# Altium footprint library MCU_PcbLib.PcbLib: 21 footprints (part 2 of 2)
Each footprint in its own frame and in the unit in brackets; x right, y up, seen from the top. Pads: shape width x height; smd on the part's side, far side on the other; paste and mask are expansions set on the pad; w line width, h text height; cw(c..) or ccw(c..) is an arc to the next point about the centre after c.
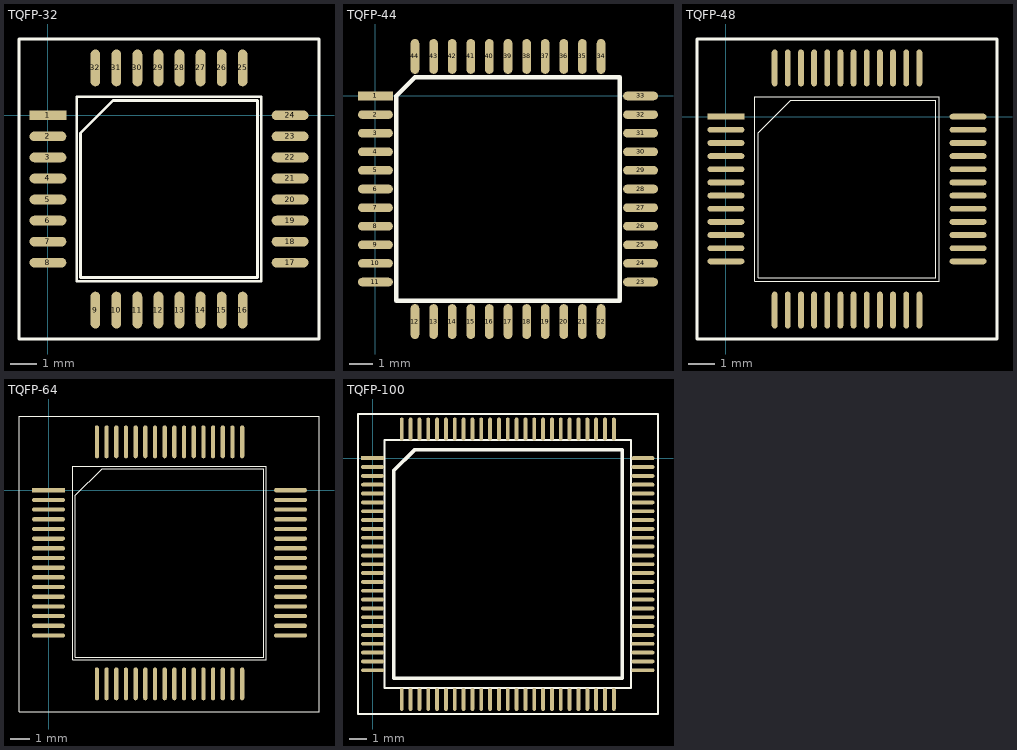
[diagram p1: the footprints below, top view; thin cyan lines are the x and y axes]

## TQFP-32 [mm]
pads (32):
  rect 1.4x0.37 smd: 1(0,0)
  oval 1.4x0.37 smd: 2(0,-0.8) 3(0,-1.6) 4(0,-2.4) 5(0,-3.2) 6(0,-4) 7(0,-4.8) 8(0,-5.6) 17(9.2,-5.6) 18(9.2,-4.8) 19(9.2,-4) 20(9.2,-3.2) 21(9.2,-2.4) 22(9.2,-1.6) 23(9.2,-0.8) 24(9.2,0)
  oval 0.37x1.4 smd: 9(1.8,-7.4) 10(2.6,-7.4) 11(3.4,-7.4) 12(4.2,-7.4) 13(5,-7.4) 14(5.8,-7.4) 15(6.6,-7.4) 16(7.4,-7.4) 25(7.4,1.8) 26(6.6,1.8) 27(5.8,1.8) 28(5,1.8) 29(4.2,1.8) 30(3.4,1.8) 31(2.6,1.8) 32(1.8,1.8)
Top Overlay:
  lines w0.1: -1.1,-8.5 10.3,-8.5 10.3,2.9 -1.1,2.9 -1.1,-8.5 ; 1.1,-6.3 1.1,-2.8 1.1,0.7 8.1,0.7 8.1,-6.3 1.1,-6.3 ; 1.235,-6.165 7.965,-6.165 7.965,0.565 2.47,0.565 1.235,-0.67 1.235,-6.165

## TQFP-44 [mm]
pads (44):
  rect 1.5x0.37 smd: 1(0,0)
  oval 1.5x0.37 smd: 2(0,-0.8) 3(0,-1.6) 4(0,-2.4) 5(0,-3.2) 6(0,-4) 7(0,-4.8) 8(0,-5.6) 9(0,-6.4) 10(0,-7.2) 11(0,-8) 23(11.4,-8) 24(11.4,-7.2) 25(11.4,-6.4) 26(11.4,-5.6) 27(11.4,-4.8) 28(11.4,-4) 29(11.4,-3.2) 30(11.4,-2.4) 31(11.4,-1.6) 32(11.4,-0.8) 33(11.4,0)
  oval 0.37x1.5 smd: 12(1.7,-9.7) 13(2.5,-9.7) 14(3.3,-9.7) 15(4.1,-9.7) 16(4.9,-9.7) 17(5.7,-9.7) 18(6.5,-9.7) 19(7.3,-9.7) 20(8.1,-9.7) 21(8.9,-9.7) 22(9.7,-9.7) 34(9.7,1.7) 35(8.9,1.7) 36(8.1,1.7) 37(7.3,1.7) 38(6.5,1.7) 39(5.7,1.7) 40(4.9,1.7) 41(4.1,1.7) 42(3.3,1.7) 43(2.5,1.7) 44(1.7,1.7)
Top Overlay:
  lines w0.2: 0.9,-8.8 10.5,-8.8 10.5,0.8 1.7,0.8 0.9,0 0.9,-8.8

## TQFP-48 [mm]
pads (48):
  rect 1.4x0.22 smd: 1(0,0)
  oval 1.4x0.22 smd: 2(0,-0.5) 3(0,-1) 4(0,-1.5) 5(0,-2) 6(0,-2.5) 7(0,-3) 8(0,-3.5) 9(0,-4) 10(0,-4.5) 11(0,-5) 12(0,-5.5) 25(9.2,-5.5) 26(9.2,-5) 27(9.2,-4.5) 28(9.2,-4) 29(9.2,-3.5) 30(9.2,-3) 31(9.2,-2.5) 32(9.2,-2) 33(9.2,-1.5) 34(9.2,-1) 35(9.2,-0.5) 36(9.2,0)
  oval 0.22x1.4 smd: 13(1.85,-7.35) 14(2.35,-7.35) 15(2.85,-7.35) 16(3.35,-7.35) 17(3.85,-7.35) 18(4.35,-7.35) 19(4.85,-7.35) 20(5.35,-7.35) 21(5.85,-7.35) 22(6.35,-7.35) 23(6.85,-7.35) 24(7.35,-7.35) 37(7.35,1.85) 38(6.85,1.85) 39(6.35,1.85) 40(5.85,1.85) 41(5.35,1.85) 42(4.85,1.85) 43(4.35,1.85) 44(3.85,1.85) 45(3.35,1.85) 46(2.85,1.85) 47(2.35,1.85) 48(1.85,1.85)
Top Overlay:
  lines w0.025: 1.1,-6.25 1.1,-2.75 1.1,0.675 1.1,0.75 8.1,0.75 8.1,-6.25 1.1,-6.25 ; 1.235,-6.115 7.965,-6.115 7.965,0.615 2.47,0.615 1.235,-0.62 1.235,-6.115
  lines w0.102: -1.1,-8.45 10.3,-8.45 10.3,2.95 -1.1,2.95 -1.1,-8.45

## TQFP-64 [mm]
pads (64):
  rect 1.7x0.22 smd: 1(0,0)
  oval 1.7x0.22 smd: 2(0,-0.5) 3(0,-1) 4(0,-1.5) 5(0,-2) 6(0,-2.5) 7(0,-3) 8(0,-3.5) 9(0,-4) 10(0,-4.5) 11(0,-5) 12(0,-5.5) 13(0,-6) 14(0,-6.5) 15(0,-7) 16(0,-7.5) 33(12.5,-7.5) 34(12.5,-7) 35(12.5,-6.5) 36(12.5,-6) 37(12.5,-5.5) 38(12.5,-5) 39(12.5,-4.5) 40(12.5,-4) 41(12.5,-3.5) 42(12.5,-3) 43(12.5,-2.5) 44(12.5,-2) 45(12.5,-1.5) 46(12.5,-1) 47(12.5,-0.5) 48(12.5,0)
  oval 0.22x1.7 smd: 17(2.5,-10) 18(3,-10) 19(3.5,-10) 20(4,-10) 21(4.5,-10) 22(5,-10) 23(5.5,-10) 24(6,-10) 25(6.5,-10) 26(7,-10) 27(7.5,-10) 28(8,-10) 29(8.5,-10) 30(9,-10) 31(9.5,-10) 32(10,-10) 49(10,2.5) 50(9.5,2.5) 51(9,2.5) 52(8.5,2.5) 53(8,2.5) 54(7.5,2.5) 55(7,2.5) 56(6.5,2.5) 57(6,2.5) 58(5.5,2.5) 59(5,2.5) 60(4.5,2.5) 61(4,2.5) 62(3.5,2.5) 63(3,2.5) 64(2.5,2.5)
Top Overlay:
  lines w0.025: -1.524,-11.43 -1.524,3.81 13.97,3.81 13.97,-11.43 -1.524,-11.43 ; 1.25,-8.75 11.25,-8.75 11.25,1.25 1.25,1.25 1.25,-3.75 1.25,-8.75 ; 1.385,-8.615 11.115,-8.615 11.115,1.115 2.77,1.115 1.385,-0.27 1.385,-8.615

## TQFP-100 [mm]
pads (100):
  rect 1.3x0.22 smd: 1(0,0)
  oval 1.3x0.22 smd: 2(0,-0.5) 3(0,-1) 4(0,-1.5) 5(0,-2) 6(0,-2.5) 7(0,-3) 8(0,-3.5) 9(0,-4) 10(0,-4.5) 11(0,-5) 12(0,-5.5) 13(0,-6) 14(0,-6.5) 15(0,-7) 16(0,-7.5) 17(0,-8) 18(0,-8.5) 19(0,-9) 20(0,-9.5) 21(0,-10) 22(0,-10.5) 23(0,-11) 24(0,-11.5) 25(0,-12) 51(15.3,-12) 52(15.3,-11.5) 53(15.3,-11) 54(15.3,-10.5) 55(15.3,-10) 56(15.3,-9.5) 57(15.3,-9) 58(15.3,-8.5) 59(15.3,-8) 60(15.3,-7.5) 61(15.3,-7) 62(15.3,-6.5) 63(15.3,-6) 64(15.3,-5.5) 65(15.3,-5) 66(15.3,-4.5) 67(15.3,-4) 68(15.3,-3.5) 69(15.3,-3) 70(15.3,-2.5) 71(15.3,-2) 72(15.3,-1.5) 73(15.3,-1) 74(15.3,-0.5) 75(15.3,0)
  oval 0.22x1.3 smd: 26(1.65,-13.65) 27(2.15,-13.65) 28(2.65,-13.65) 29(3.15,-13.65) 30(3.65,-13.65) 31(4.15,-13.65) 32(4.65,-13.65) 33(5.15,-13.65) 34(5.65,-13.65) 35(6.15,-13.65) 36(6.65,-13.65) 37(7.15,-13.65) 38(7.65,-13.65) 39(8.15,-13.65) 40(8.65,-13.65) 41(9.15,-13.65) 42(9.65,-13.65) 43(10.15,-13.65) 44(10.65,-13.65) 45(11.15,-13.65) 46(11.65,-13.65) 47(12.15,-13.65) 48(12.65,-13.65) 49(13.15,-13.65) 50(13.65,-13.65) 76(13.65,1.65) 77(13.15,1.65) 78(12.65,1.65) 79(12.15,1.65) 80(11.65,1.65) 81(11.15,1.65) 82(10.65,1.65) 83(10.15,1.65) 84(9.65,1.65) 85(9.15,1.65) 86(8.65,1.65) 87(8.15,1.65) 88(7.65,1.65) 89(7.15,1.65) 90(6.65,1.65) 91(6.15,1.65) 92(5.65,1.65) 93(5.15,1.65) 94(4.65,1.65) 95(4.15,1.65) 96(3.65,1.65) 97(3.15,1.65) 98(2.65,1.65) 99(2.15,1.65) 100(1.65,1.65)
Top Overlay:
  lines w0.102: -0.825,-14.475 -0.825,2.5 16.15,2.5 16.15,-14.475 -0.825,-14.475 ; 0.675,-13 0.675,1.025 14.625,1.025 14.625,-13 0.675,-13
  lines w0.2: 1.185,-12.465 14.115,-12.465 14.115,0.465 2.37,0.465 1.185,-0.72 1.185,-12.465